# Altium integrated library Transistor.IntLib: 3457 symbols (part 68 of 78)
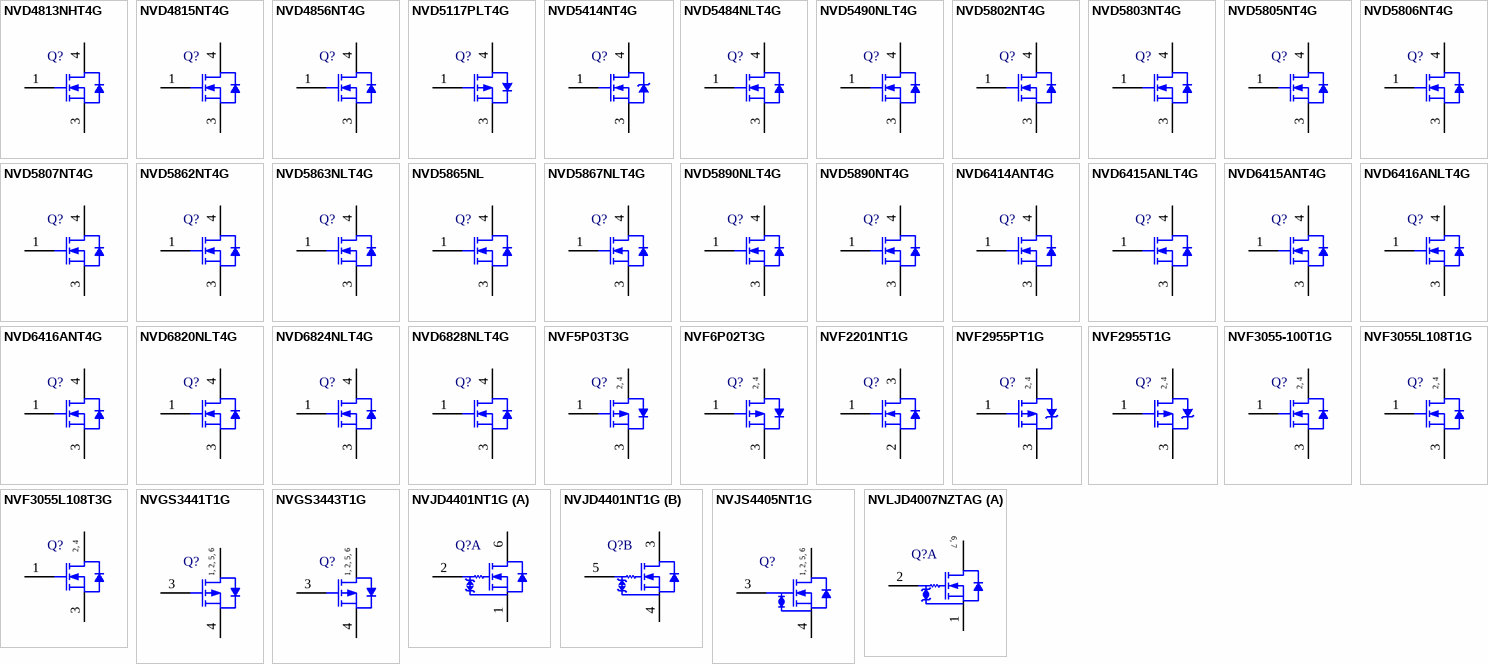
[diagram p161: symbols NVD4813NHT4G to NVLJD4007NZTAG]

## NVF2955PT1G
designator Q?
Power MOSFET, -60 V, -2.6 A, Single P-Channel, 4-Pin SOT-223, Pb-Free, Tape and Reel; Manufacturer: On Semiconductor; PartNumber: NVF2955PT1G; Channel Polarity: P Channel; Ciss Typ (pF): 492; Coss Typ (pF): 165; Crss Typ (pF): 50; ID Max (A): 2.6; Qrr Typ (nC): 0.139; V(BR)DSS Min (V): 60; VGS Max (V): 20; VGS(th) Max (V): 4; DatasheetVersion: Rev. 6; PackageVersion: Rev. N, 08/2009; PackageReference: SOT-223-4-318E-04; PackageDescription: 4-Pin Small Outline Transistor, Body 6.5 x 3.5 mm, Pitch 2.3 mm; Configuration: Single; Package Type: SOT-223-4 / TO-261-4; Packing: Tape and Reel; RoHS: Pb-Free; Mounting Technology: Surface Mount; ComponentLink1Description: Manufacturer URL; ComponentLink1URL: http://www.onsemi.com/; ComponentLink2Description: Datasheet; ComponentLink2URL: http://www.onsemi.com/pub_link/Collateral/NTF2955-D.PDF; ComponentLink3Description: Package Specification; ComponentLink3URL: http://www.onsemi.com/pub_link/Collateral/318E-04.PDF
footprint ONSC-SOT-223-4-318E-04_V (SOT223, 4-Leads, Body 6.5x3.5mm, Pitch 2.3mm)
pins: 1 G, 2 D, 3 S, 4 D
text: 2, 4

## NVF2955T1G
designator Q?
Power MOSFET, -60 V, -2.6 A, Single P-Channel, 4-Pin SOT-223, Pb-Free, Tape and Reel; Manufacturer: On Semiconductor; PartNumber: NVF2955T1G; Channel Polarity: P Channel; Ciss Typ (pF): 492; Coss Typ (pF): 165; Crss Typ (pF): 50; ID Max (A): 2.6; Qrr Typ (nC): 0.139; V(BR)DSS Min (V): 60; VGS Max (V): 20; VGS(th) Max (V): 4; DatasheetVersion: Rev. 6; PackageVersion: Rev. N, 08/2009; PackageReference: SOT-223-4-318E-04; PackageDescription: 4-Pin Small Outline Transistor, Body 6.5 x 3.5 mm, Pitch 2.3 mm; Configuration: Single; Package Type: SOT-223-4 / TO-261-4; Packing: Tape and Reel; RoHS: Pb-Free; Mounting Technology: Surface Mount; ComponentLink1Description: Manufacturer URL; ComponentLink1URL: http://www.onsemi.com/; ComponentLink2Description: Datasheet; ComponentLink2URL: http://www.onsemi.com/pub_link/Collateral/NTF2955-D.PDF; ComponentLink3Description: Package Specification; ComponentLink3URL: http://www.onsemi.com/pub_link/Collateral/318E-04.PDF
footprint ONSC-SOT-223-4-318E-04_V (SOT223, 4-Leads, Body 6.5x3.5mm, Pitch 2.3mm)
pins: 1 G, 2 D, 3 S, 4 D
text: 2, 4

## NVF3055-100T1G
designator Q?
Power MOSFET, 3 A, 60 V, N-Channel, 4-Pin SOT-223, Pb-Free, Tape and Reel; Manufacturer: On Semiconductor; PartNumber: NVF3055-100T1G; Channel Polarity: N Channel; Ciss Typ (pF): 324; Configuration: Single; Coss Typ (pF): 35; Crss Typ (pF): 110; Qrr Typ (nC): 40; V(BR)DSS Min (V): 60; DatasheetVersion: Rev. 4; PackageVersion: Rev. N, 08/2009; PackageReference: SOT-223-4-318E-04; PackageDescription: 4-Pin Small Outline Transistor, Body 6.5 x 3.5 mm, Pitch 2.3 mm; Package Type: SOT-223-4 / TO-261-4; Packing: Tape and Reel; RoHS: Pb-Free; Mounting Technology: Surface Mount; ComponentLink1Description: Manufacturer URL; ComponentLink1URL: http://www.onsemi.com/; ComponentLink2Description: Datasheet; ComponentLink2URL: http://www.onsemi.com/pub_link/Collateral/NTF3055-100-D.PDF; ComponentLink3Description: Package Specification; ComponentLink3URL: http://www.onsemi.com/pub_link/Collateral/318E-04.PDF
footprint ONSC-SOT-223-4-318E-04_V (SOT223, 4-Leads, Body 6.5x3.5mm, Pitch 2.3mm)
pins: 1 G, 2 D, 3 S, 4 D
text: 2, 4

## NVF3055L108T1G
designator Q?
Power MOSFET, 3 A, 60 V, Logic Level, N-Channel, 4-Pin SOT-223, Pb-Free, Tape and Reel; Manufacturer: On Semiconductor; PartNumber: NVF3055L108T1G; Channel Polarity: N Channel; Ciss Typ (pF): 313; Configuration: Single; Coss Typ (pF): 112; Crss Typ (pF): 40; Qrr Typ (nC): 44; V(BR)DSS Min (V): 60; VGS(th) Max (V): 2; DatasheetVersion: Rev. 6; PackageVersion: Rev. N, 08/2009; PackageReference: SOT-223-4-318E-04; PackageDescription: 4-Pin Small Outline Transistor, Body 6.5 x 3.5 mm, Pitch 2.3 mm; Package Type: SOT-223-4 / TO-261-4; Packing: Tape and Reel; RoHS: Pb-Free; Mounting Technology: Surface Mount; ComponentLink1Description: Manufacturer URL; ComponentLink1URL: http://www.onsemi.com/; ComponentLink2Description: Datasheet; ComponentLink2URL: http://www.onsemi.com/pub_link/Collateral/NTF3055L108-D.PDF; ComponentLink3Description: Package Specification; ComponentLink3URL: http://www.onsemi.com/pub_link/Collateral/318E-04.PDF
footprint ONSC-SOT-223-4-318E-04_V (SOT223, 4-Leads, Body 6.5x3.5mm, Pitch 2.3mm)
pins: 1 G, 2 D, 3 S, 4 D
text: 2, 4

## NVF3055L108T3G
designator Q?
Power MOSFET, 3 A, 60 V, Logic Level, N-Channel, 4-Pin SOT-223, Pb-Free, Tape and Reel; Manufacturer: On Semiconductor; PartNumber: NVF3055L108T3G; Channel Polarity: N Channel; Ciss Typ (pF): 313; Configuration: Single; Coss Typ (pF): 112; Crss Typ (pF): 40; Qrr Typ (nC): 44; V(BR)DSS Min (V): 60; VGS(th) Max (V): 2; DatasheetVersion: Rev. 6; PackageVersion: Rev. N, 08/2009; PackageReference: SOT-223-4-318E-04; PackageDescription: 4-Pin Small Outline Transistor, Body 6.5 x 3.5 mm, Pitch 2.3 mm; Package Type: SOT-223-4 / TO-261-4; Packing: Tape and Reel; RoHS: Pb-Free; Mounting Technology: Surface Mount; ComponentLink1Description: Manufacturer URL; ComponentLink1URL: http://www.onsemi.com/; ComponentLink2Description: Datasheet; ComponentLink2URL: http://www.onsemi.com/pub_link/Collateral/NTF3055L108-D.PDF; ComponentLink3Description: Package Specification; ComponentLink3URL: http://www.onsemi.com/pub_link/Collateral/318E-04.PDF
footprint ONSC-SOT-223-4-318E-04_V (SOT223, 4-Leads, Body 6.5x3.5mm, Pitch 2.3mm)
pins: 1 G, 2 D, 3 S, 4 D
text: 2, 4

## NVGS3441T1G
designator Q?
Power MOSFET, 1 A, 20 V, P-Channel, 6-Pin TSOP, Pb-Free, Tape and Reel; Manufacturer: On Semiconductor; PartNumber: NVGS3441T1G; Channel Polarity: P Channel; Ciss Typ (pF): 480; Configuration: Single; Coss Typ (pF): 265; Crss Typ (pF): 100; V(BR)DSS Min (V): 20; VGS Max (V): 8; VGS(th) Max (V): 1.5; DatasheetVersion: Rev. 6; PackageVersion: Rev. V, 06/2012; PackageReference: TSOP-6-318G-02; PackageDescription: 6-Pin Small Outline Package, Body 3 x 1.5 mm, Pitch 0.95 mm; Package Type: TSOP-6; Packing: Tape and Reel; RoHS: Pb-Free; Mounting Technology: Surface Mount; ComponentLink1Description: Manufacturer URL; ComponentLink1URL: http://www.onsemi.com/; ComponentLink2Description: Datasheet; ComponentLink2URL: http://www.onsemi.com/pub_link/Collateral/NTGS3441T1-D.PDF; ComponentLink3Description: Package Specification; ComponentLink3URL: http://www.onsemi.com/pub_link/Collateral/318G-02.PDF
footprint ONSC-TSOP-6-318G-02_V (SOP, 6-Leads, Body 3x1.5mm, Pitch 0.95mm)
pins: 1 D, 2 D, 3 G, 4 S, 5 D, 6 D
text: 1, 2, 5, 6

## NVGS3443T1G
designator Q?
Power MOSFET, 4.4 A, 20 V, P-Channel, 6-Pin TSOP, Pb-Free, Tape and Reel; Manufacturer: On Semiconductor; PartNumber: NVGS3443T1G; Channel Polarity: P Channel; Ciss Typ (pF): 565; Configuration: Single; Coss Typ (pF): 320; Crss Typ (pF): 120; V(BR)DSS Min (V): 20; VGS Max (V): 12; VGS(th) Max (V): 1.5; DatasheetVersion: Rev. 5; PackageVersion: Rev. V, 06/2012; PackageReference: TSOP-6-318G-02; PackageDescription: 6-Pin Small Outline Package, Body 3 x 1.5 mm, Pitch 0.95 mm; Package Type: TSOP-6; Packing: Tape and Reel; RoHS: Pb-Free; Mounting Technology: Surface Mount; ComponentLink1Description: Manufacturer URL; ComponentLink1URL: http://www.onsemi.com/; ComponentLink2Description: Datasheet; ComponentLink2URL: http://www.onsemi.com/pub_link/Collateral/NTGS3443T1-D.PDF; ComponentLink3Description: Package Specification; ComponentLink3URL: http://www.onsemi.com/pub_link/Collateral/318G-02.PDF
footprint ONSC-TSOP-6-318G-02_V (SOP, 6-Leads, Body 3x1.5mm, Pitch 0.95mm)
pins: 1 D, 2 D, 3 G, 4 S, 5 D, 6 D
text: 1, 2, 5, 6

## NVJD4401NT1G
designator Q?
Small Signal MOSFET, 20 V, Dual N-Channel, ESD Protection, 6-Pin SC70, Pb-Free, Tape and Reel; Manufacturer: On Semiconductor; PartNumber: NVJD4401NT1G; Channel Polarity: N Channel; Ciss Typ (pF): 33; Coss Typ (pF): 13; Crss Typ (pF): 2.8; ID Max (A): 0.63; V(BR)DSS Min (V): 20; VGS Max (V): 12; VGS(th) Max (V): 1.5; DatasheetVersion: Rev. 6; PackageVersion: Rev. W; PackageReference: SC70-6-419B-02_W; PackageDescription: 6-Pin Small Outline Transistor, Body 2 x 1.25 mm, Pitch 0.65 mm; Configuration: Dual; Package Type: SC-88-6 / SC-70-6 / SOT-363-6; Packing: Tape and Reel; RoHS: Pb-Free; Mounting Technology: Surface Mount; ComponentLink1Description: Manufacturer URL; ComponentLink1URL: http://www.onsemi.com/; ComponentLink2Description: Datasheet; ComponentLink2URL: http://www.onsemi.com/pub_link/Collateral/NTJD4401N-D.PDF; ComponentLink3Description: Package Specification; ComponentLink3URL: http://www.onsemi.com/pub_link/Collateral/SMF05C-D.PDF
footprint ONSC-SC70-6-419B-02_W_V (SOT23, 6-Leads, Body 2x1.25mm, Pitch 0.65mm)
part A pins: 1 S1, 2 G1, 6 D1
part B pins: 3 D2, 4 S2, 5 G2

## NVJS4405NT1G
designator Q?
Small Signal MOSFET, 25 V, 1.2 A, Single, N-Channel, 6-Pin SC70, Pb-Free, Tape and Reel; Manufacturer: On Semiconductor; PartNumber: NVJS4405NT1G; Channel Polarity: N Channel; Ciss Typ (pF): 49; Coss Typ (pF): 22.4; Crss Typ (pF): 8; ID Max (A): 1.2; V(BR)DSS Min (V): 25; VGS(th) Max (V): 1.5; DatasheetVersion: Rev. 6; PackageVersion: Rev. W; PackageReference: SC70-6-419B-02_W; PackageDescription: 6-Pin Small Outline Transistor, Body 2 x 1.25 mm, Pitch 0.65 mm; Configuration: Single; Package Type: SC-88-6 / SC-70-6 / SOT-363-6; Packing: Tape and Reel; RoHS: Pb-Free; VGS Max (V): 8; Mounting Technology: Surface Mount; ComponentLink1Description: Manufacturer URL; ComponentLink1URL: http://www.onsemi.com/; ComponentLink2Description: Datasheet; ComponentLink2URL: http://www.onsemi.com/pub_link/Collateral/NTJS4405N-D.PDF; ComponentLink3Description: Package Specification; ComponentLink3URL: http://www.onsemi.com/pub_link/Collateral/SMF05C-D.PDF
footprint ONSC-SC70-6-419B-02_W_V (SOT23, 6-Leads, Body 2x1.25mm, Pitch 0.65mm)
pins: 1 D, 2 D, 3 G, 4 S, 5 D, 6 D
text: 1, 2, 5, 6

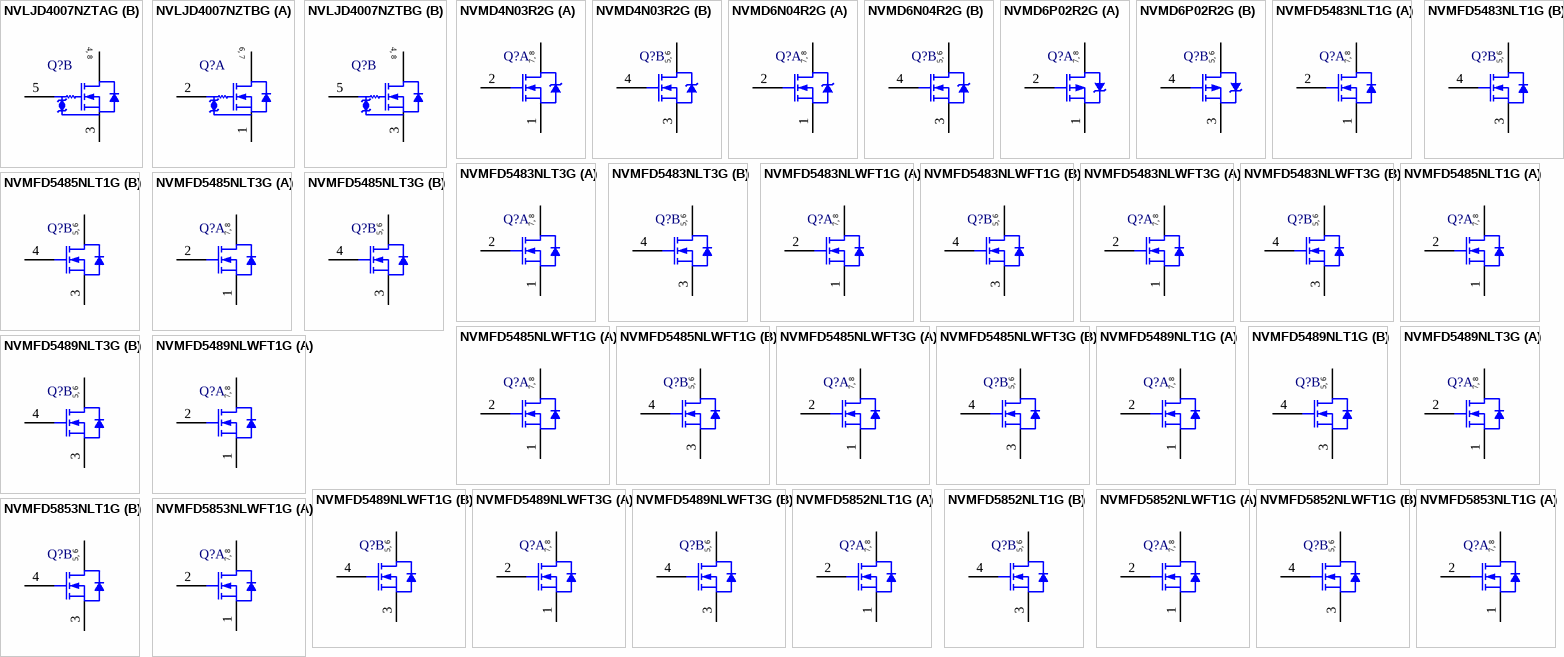
[diagram p82: symbols NVLJD4007NZTAG to NVMFD5853NLWFT1G]

## NVLJD4007NZTAG
designator Q?
Small Signal MOSFET, 30 V, 245 mA, Dual, N-Channel, Gate ESD Protection, 6-Pin WDFN, Pb-Free, Tape and Reel; Manufacturer: On Semiconductor; PartNumber: NVLJD4007NZTAG; Channel Polarity: N Channel; Ciss Typ (pF): 12.2; Coss Typ (pF): 10; Crss Typ (pF): 3.3; ID Max (A): 0.245; PD Max (W): 0.755; V(BR)DSS Min (V): 30; VGS(th) Max (V): 1.5; DatasheetVersion: Rev. F; PackageVersion: Rev. F, 09/2012; PackageReference: WDFN-6-506AN_F; PackageDescription: 6-Pin Small Outline No-Lead, Body 2 x 2 mm, Pitch 0.65 mm; Supplier 1: Newark; Supplier Part Number 1: 97W6401; Supplier 2: Mouser; Supplier Part Number 2: 863-NVLJD4007NZTAG; Configuration: Dual; Package Type: WDFN-6; Packing: Tape and Reel; RoHS: Pb-Free; VGS Max (V): 10; Mounting Technology: Surface Mount; ComponentLink1Description: Manufacturer URL; ComponentLink1URL: http://www.onsemi.com/; ComponentLink2Description: Datasheet; ComponentLink2URL: http://www.onsemi.com/pub_link/Collateral/NVLJD4007NZ-D.PDF; ComponentLink3Description: Package Specification; ComponentLink3URL: http://www.onsemi.com/pub_link/Collateral/NVLJD4007NZ-D.PDF
footprint ONSC-WDFN-6-506AN_F_V (WDFN, 6-Leads, Body 2x2mm, Pitch 0.65mm)
part A pins: 1 S1, 2 G1, 6 D1, 7 D1
part B pins: 3 S2, 4 D2, 5 G2, 8 D2
part A text: 6, 7
part B text: 4, 8

## NVLJD4007NZTBG
designator Q?
Small Signal MOSFET, 30 V, 245 mA, Dual, N-Channel, Gate ESD Protection, 6-Pin WDFN, Pb-Free, Tape and Reel; Manufacturer: On Semiconductor; PartNumber: NVLJD4007NZTBG; Channel Polarity: N Channel; Ciss Typ (pF): 12.2; Coss Typ (pF): 10; Crss Typ (pF): 3.3; ID Max (A): 0.245; PD Max (W): 0.755; V(BR)DSS Min (V): 30; VGS(th) Max (V): 1.5; DatasheetVersion: Rev. F; PackageVersion: Rev. F, 09/2012; PackageReference: WDFN-6-506AN_F; PackageDescription: 6-Pin Small Outline No-Lead, Body 2 x 2 mm, Pitch 0.65 mm; Supplier 1: Newark; Supplier Part Number 1: 97W6402; Supplier 2: Mouser; Supplier Part Number 2: 863-NVLJD4007NZTBG; Configuration: Dual; Package Type: WDFN-6; Packing: Tape and Reel; RoHS: Pb-Free; VGS Max (V): 10; Mounting Technology: Surface Mount; ComponentLink1Description: Manufacturer URL; ComponentLink1URL: http://www.onsemi.com/; ComponentLink2Description: Datasheet; ComponentLink2URL: http://www.onsemi.com/pub_link/Collateral/NVLJD4007NZ-D.PDF; ComponentLink3Description: Package Specification; ComponentLink3URL: http://www.onsemi.com/pub_link/Collateral/NVLJD4007NZ-D.PDF
footprint ONSC-WDFN-6-506AN_F_V (WDFN, 6-Leads, Body 2x2mm, Pitch 0.65mm)
part A pins: 1 S1, 2 G1, 6 D1, 7 D1
part B pins: 3 S2, 4 D2, 5 G2, 8 D2
part A text: 6, 7
part B text: 4, 8

## NVMD4N03R2G
designator Q?
Power MOSFET, 4 A, 30 V, N-Channel, 8-Pin SOIC, Pb-Free, Tape and Reel; Manufacturer: On Semiconductor; PartNumber: NVMD4N03R2G; Channel Polarity: N Channel; Ciss Typ (pF): 285; Configuration: Dual; Coss Typ (pF): 95; Crss Typ (pF): 35; ID Max (A): 4; PD Max (W): 2; Qrr Typ (nC): 8; V(BR)DSS Min (V): 30; VGS Max (V): 20; VGS(th) Max (V): 3; DatasheetVersion: Rev. 4; PackageVersion: Rev. AK, 02/2011; PackageReference: SOIC-8-751-07; PackageDescription: 8-Pin Small Outline Integrated Circuit, Body 4.9 x 3.9 mm, Pitch 1.27 mm; Package Type: SOIC-8; Packing: Tape and Reel; RoHS: Pb-Free; Mounting Technology: Surface Mount; ComponentLink1Description: Manufacturer URL; ComponentLink1URL: http://www.onsemi.com/; ComponentLink2Description: Datasheet; ComponentLink2URL: http://www.onsemi.com/pub_link/Collateral/NTMD4N03R2-D.PDF; ComponentLink3Description: Package Specification; ComponentLink3URL: http://www.onsemi.com/pub_link/Collateral/751-07.PDF
footprint ONSC-SOIC-8-751-07_V (SOIC, 8-Leads, Body 4.9x3.9mm, Pitch 1.27mm)
part A pins: 1 S1, 2 G1, 7 D1, 8 D1
part B pins: 3 S2, 4 G2, 5 D2, 6 D2
part A text: 7, 8
part B text: 5, 6

## NVMD6N04R2G
designator Q?
Power MOSFET, 40 V, 5.8 A, Dual N-Channel, 8-Pin SOIC, Pb-Free, Tape and Reel; Manufacturer: On Semiconductor; PartNumber: NVMD6N04R2G; Channel Polarity: N Channel; Ciss Typ (pF): 723; Coss Typ (pF): 156; Crss Typ (pF): 53; ID Max (A): 5.8; Qrr Typ (nC): 20; V(BR)DSS Min (V): 40; VGS(th) Max (V): 3; DatasheetVersion: Rev. 2; PackageVersion: Rev. AK, 02/2011; PackageReference: SOIC-8-751-07; PackageDescription: 8-Pin Small Outline Integrated Circuit, Body 4.9 x 3.9 mm, Pitch 1.27 mm; Configuration: Dual; Package Type: SOIC-8; Packing: Tape and Reel; RoHS: Pb-Free; VGS Max (V): 20; Mounting Technology: Surface Mount; ComponentLink1Description: Manufacturer URL; ComponentLink1URL: http://www.onsemi.com/; ComponentLink2Description: Datasheet; ComponentLink2URL: http://www.onsemi.com/pub_link/Collateral/NTMD6N04R2-D.PDF; ComponentLink3Description: Package Specification; ComponentLink3URL: http://www.onsemi.com/pub_link/Collateral/751-07.PDF
footprint ONSC-SOIC-8-751-07_V (SOIC, 8-Leads, Body 4.9x3.9mm, Pitch 1.27mm)
part A pins: 1 S1, 2 G1, 7 D1, 8 D1
part B pins: 3 S2, 4 G2, 5 D2, 6 D2
part A text: 7, 8
part B text: 5, 6

## NVMD6P02R2G
designator Q?
Power MOSFET, 6 A, 20 V, P-Channel, 8-Pin SOIC, Pb-Free, Tape and Reel; Manufacturer: On Semiconductor; PartNumber: NVMD6P02R2G; Channel Polarity: P Channel; Ciss Typ (pF): 1380; Configuration: Dual; Coss Typ (pF): 515; Crss Typ (pF): 250; Qrr Typ (nC): 40; V(BR)DSS Min (V): 20; VGS Max (V): 12; VGS(th) Max (V): 1.2; DatasheetVersion: Rev. 4; PackageVersion: Rev. AK, 02/2011; PackageReference: SOIC-8-751-07; PackageDescription: 8-Pin Small Outline Integrated Circuit, Body 4.9 x 3.9 mm, Pitch 1.27 mm; Package Type: SOIC-8; Packing: Tape and Reel; RoHS: Pb-Free; Mounting Technology: Surface Mount; ComponentLink1Description: Manufacturer URL; ComponentLink1URL: http://www.onsemi.com/; ComponentLink2Description: Datasheet; ComponentLink2URL: http://www.onsemi.com/pub_link/Collateral/NTMD6P02R2-D.PDF; ComponentLink3Description: Package Specification; ComponentLink3URL: http://www.onsemi.com/pub_link/Collateral/751-07.PDF
footprint ONSC-SOIC-8-751-07_V (SOIC, 8-Leads, Body 4.9x3.9mm, Pitch 1.27mm)
part A pins: 1 S1, 2 G1, 7 D1, 8 D1
part B pins: 3 S2, 4 G2, 5 D2, 6 D2
part A text: 7, 8
part B text: 5, 6

## NVMFD5483NLT1G
designator Q?
Power MOSFET, 60 V, 36 mOhm , 24 A, Dual N-Channel, 8-Pin DFN, Pb-Free, Tape and Reel; Manufacturer: On Semiconductor; PartNumber: NVMFD5483NLT1G; Channel Polarity: N Channel; Ciss Typ (pF): 668; Coss Typ (pF): 152; Crss Typ (pF): 67; ID Max (A): 24; Qrr Typ (nC): 35; V(BR)DSS Min (V): 60; VGS Max (V): 20; VGS(th) Max (V): 2.5; DatasheetVersion: Rev. 1; PackageVersion: Rev. E, 02/2013; PackageReference: DFN-8-506BT; PackageDescription: 8-Pin Small Outline No-Lead, Body 4.9 x 5.9 mm, Pitch 1.27 mm; Supplier 1: Newark; Supplier Part Number 1: 11X3703; Supplier 2: Mouser; Supplier Part Number 2: 863-NVMFD5483NLT1G; Configuration: Dual; Package Type: DFN-8; Packing: Tape and Reel; RoHS: Pb-Free; Mounting Technology: Surface Mount; ComponentLink1Description: Manufacturer URL; ComponentLink1URL: http://www.onsemi.com/; ComponentLink2Description: Datasheet; ComponentLink2URL: http://www.onsemi.com/pub_link/Collateral/NVMFD5483NL-D.PDF; ComponentLink3Description: Package Specification; ComponentLink3URL: http://www.onsemi.com/pub_link/Collateral/506BT.PDF
footprint ONSC-DFN-8-506BT_V (DFN, 8-Leads, Body 5.9x4.9mm, Pitch 1.27mm)
part A pins: 1 S1, 2 G1, 7 D1, 8 D1
part B pins: 3 S2, 4 G2, 5 D2, 6 D2
part A text: 7, 8
part B text: 5, 6

## NVMFD5483NLT3G
designator Q?
Power MOSFET, 60 V, 24 A, 36 mOhm, Dual N-Channel, 8-Pin DFN, Pb-Free, Tape and Reel; Manufacturer: On Semiconductor; PartNumber: NVMFD5483NLT3G; Channel Polarity: N Channel; Ciss Typ (pF): 668; Coss Typ (pF): 152; Crss Typ (pF): 67; ID Max (A): 24; Qrr Typ (nC): 35; V(BR)DSS Min (V): 60; VGS Max (V): 20; VGS(th) Max (V): 2.5; DatasheetVersion: Rev. 1; PackageVersion: Rev. E, 02/2013; PackageReference: DFN-8-506BT; PackageDescription: 8-Pin Small Outline No-Lead, Body 4.9 x 5.9 mm, Pitch 1.27 mm; Supplier 1: Newark; Supplier Part Number 1: 11X3704; Supplier 2: Mouser; Supplier Part Number 2: 863-NVMFD5483NLT3G; Configuration: Dual; Package Type: DFN-8; Packing: Tape and Reel; RoHS: Pb-Free; Mounting Technology: Surface Mount; ComponentLink1Description: Manufacturer URL; ComponentLink1URL: http://www.onsemi.com/; ComponentLink2Description: Datasheet; ComponentLink2URL: http://www.onsemi.com/pub_link/Collateral/NVMFD5483NL-D.PDF; ComponentLink3Description: Package Specification; ComponentLink3URL: http://www.onsemi.com/pub_link/Collateral/506BT.PDF
footprint ONSC-DFN-8-506BT_V (DFN, 8-Leads, Body 5.9x4.9mm, Pitch 1.27mm)
part A pins: 1 S1, 2 G1, 7 D1, 8 D1
part B pins: 3 S2, 4 G2, 5 D2, 6 D2
part A text: 7, 8
part B text: 5, 6

## NVMFD5483NLWFT1G
designator Q?
Power MOSFET, 60 V, 36 mOhm , 24 A, Dual N-Channel, 8-Pin DFN, Pb-Free, Tape and Reel; Manufacturer: On Semiconductor; PartNumber: NVMFD5483NLWFT1G; Channel Polarity: N Channel; Ciss Typ (pF): 668; Coss Typ (pF): 152; Crss Typ (pF): 67; ID Max (A): 24; Qrr Typ (nC): 35; V(BR)DSS Min (V): 60; VGS Max (V): 20; VGS(th) Max (V): 2.5; DatasheetVersion: Rev. 1; PackageVersion: Rev. E, 02/2013; PackageReference: DFN-8-506BT; PackageDescription: 8-Pin Small Outline No-Lead, Body 4.9 x 5.9 mm, Pitch 1.27 mm; Supplier 1: Newark; Supplier Part Number 1: 11X3705; Supplier 2: Mouser; Supplier Part Number 2: 863-NVMFD5483NLWFT1G; Configuration: Dual; Package Type: DFN-8; Packing: Tape and Reel; RoHS: Pb-Free; Mounting Technology: Surface Mount; ComponentLink1Description: Manufacturer URL; ComponentLink1URL: http://www.onsemi.com/; ComponentLink2Description: Datasheet; ComponentLink2URL: http://www.onsemi.com/pub_link/Collateral/NVMFD5483NL-D.PDF; ComponentLink3Description: Package Specification; ComponentLink3URL: http://www.onsemi.com/pub_link/Collateral/506BT.PDF
footprint ONSC-DFN-8-506BT_V (DFN, 8-Leads, Body 5.9x4.9mm, Pitch 1.27mm)
part A pins: 1 S1, 2 G1, 7 D1, 8 D1
part B pins: 3 S2, 4 G2, 5 D2, 6 D2
part A text: 7, 8
part B text: 5, 6

## NVMFD5483NLWFT3G
designator Q?
Power MOSFET, 60 V, 24 A, 36 mOhm, Dual N-Channel, 8-Pin DFN, Pb-Free, Tape and Reel; Manufacturer: On Semiconductor; PartNumber: NVMFD5483NLWFT3G; Channel Polarity: N Channel; Ciss Typ (pF): 668; Coss Typ (pF): 152; Crss Typ (pF): 67; ID Max (A): 24; Qrr Typ (nC): 35; V(BR)DSS Min (V): 60; VGS Max (V): 20; VGS(th) Max (V): 2.5; DatasheetVersion: Rev. 1; PackageVersion: Rev. E, 02/2013; PackageReference: DFN-8-506BT; PackageDescription: 8-Pin Small Outline No-Lead, Body 4.9 x 5.9 mm, Pitch 1.27 mm; Supplier 1: Newark; Supplier Part Number 1: 11X3706; Supplier 2: Mouser; Supplier Part Number 2: 863-NVMFD5483NLWFT3G; Configuration: Dual; Package Type: DFN-8; Packing: Tape and Reel; RoHS: Pb-Free; Mounting Technology: Surface Mount; ComponentLink1Description: Manufacturer URL; ComponentLink1URL: http://www.onsemi.com/; ComponentLink2Description: Datasheet; ComponentLink2URL: http://www.onsemi.com/pub_link/Collateral/NVMFD5483NL-D.PDF; ComponentLink3Description: Package Specification; ComponentLink3URL: http://www.onsemi.com/pub_link/Collateral/506BT.PDF
footprint ONSC-DFN-8-506BT_V (DFN, 8-Leads, Body 5.9x4.9mm, Pitch 1.27mm)
part A pins: 1 S1, 2 G1, 7 D1, 8 D1
part B pins: 3 S2, 4 G2, 5 D2, 6 D2
part A text: 7, 8
part B text: 5, 6

## NVMFD5485NLT1G
designator Q?
Power MOSFET, 60 V, 20 A, 44 mOhm, Dual N-Channel, 8-Pin DFN, Pb-Free, Tape and Reel; Manufacturer: On Semiconductor; PartNumber: NVMFD5485NLT1G; Channel Polarity: N Channel; Ciss Typ (pF): 560; Coss Typ (pF): 126; Crss Typ (pF): 58; ID Max (A): 20; Qrr Typ (nC): 35.5; V(BR)DSS Min (V): 60; VGS(th) Max (V): 2.5; DatasheetVersion: Rev. 1; PackageVersion: Rev. E, 02/2013; PackageReference: DFN-8-506BT; PackageDescription: 8-Pin Small Outline No-Lead, Body 4.9 x 5.9 mm, Pitch 1.27 mm; Supplier 1: Newark; Supplier Part Number 1: 11X3707; Supplier 2: Mouser; Supplier Part Number 2: 863-NVMFD5485NLT1G; Configuration: Dual; Package Type: DFN-8; Packing: Tape and Reel; RoHS: Pb-Free; VGS Max (V): 20; Mounting Technology: Surface Mount; ComponentLink1Description: Manufacturer URL; ComponentLink1URL: http://www.onsemi.com/; ComponentLink2Description: Datasheet; ComponentLink2URL: http://www.onsemi.com/pub_link/Collateral/NVMFD5485NL-D.PDF; ComponentLink3Description: Package Specification; ComponentLink3URL: http://www.onsemi.com/pub_link/Collateral/506BT.PDF
footprint ONSC-DFN-8-506BT_V (DFN, 8-Leads, Body 5.9x4.9mm, Pitch 1.27mm)
part A pins: 1 S1, 2 G1, 7 D1, 8 D1
part B pins: 3 S2, 4 G2, 5 D2, 6 D2
part A text: 7, 8
part B text: 5, 6

## NVMFD5485NLT3G
designator Q?
Power MOSFET, 60 V, 20 A, 44 mOhm, Dual N-Channel, 8-Pin DFN, Pb-Free, Tape and Reel; Manufacturer: On Semiconductor; PartNumber: NVMFD5485NLT3G; Channel Polarity: N Channel; Ciss Typ (pF): 560; Coss Typ (pF): 126; Crss Typ (pF): 58; ID Max (A): 20; Qrr Typ (nC): 35.5; V(BR)DSS Min (V): 60; VGS(th) Max (V): 2.5; DatasheetVersion: Rev. 1; PackageVersion: Rev. E, 02/2013; PackageReference: DFN-8-506BT; PackageDescription: 8-Pin Small Outline No-Lead, Body 4.9 x 5.9 mm, Pitch 1.27 mm; Supplier 1: Newark; Supplier Part Number 1: 11X3708; Supplier 2: Mouser; Supplier Part Number 2: 863-NVMFD5485NLT3G; Configuration: Dual; Package Type: DFN-8; Packing: Tape and Reel; RoHS: Pb-Free; VGS Max (V): 20; Mounting Technology: Surface Mount; ComponentLink1Description: Manufacturer URL; ComponentLink1URL: http://www.onsemi.com/; ComponentLink2Description: Datasheet; ComponentLink2URL: http://www.onsemi.com/pub_link/Collateral/NVMFD5485NL-D.PDF; ComponentLink3Description: Package Specification; ComponentLink3URL: http://www.onsemi.com/pub_link/Collateral/506BT.PDF
footprint ONSC-DFN-8-506BT_V (DFN, 8-Leads, Body 5.9x4.9mm, Pitch 1.27mm)
part A pins: 1 S1, 2 G1, 7 D1, 8 D1
part B pins: 3 S2, 4 G2, 5 D2, 6 D2
part A text: 7, 8
part B text: 5, 6

## NVMFD5485NLWFT1G
designator Q?
Power MOSFET, 60 V, 20 A, 44 mOhm, Dual N-Channel, 8-Pin DFN, Pb-Free, Tape and Reel; Manufacturer: On Semiconductor; PartNumber: NVMFD5485NLWFT1G; Channel Polarity: N Channel; Ciss Typ (pF): 560; Coss Typ (pF): 126; Crss Typ (pF): 58; ID Max (A): 20; Qrr Typ (nC): 35.5; V(BR)DSS Min (V): 60; VGS(th) Max (V): 2.5; DatasheetVersion: Rev. 1; PackageVersion: Rev. E, 02/2013; PackageReference: DFN-8-506BT; PackageDescription: 8-Pin Small Outline No-Lead, Body 4.9 x 5.9 mm, Pitch 1.27 mm; Supplier 1: Newark; Supplier Part Number 1: 11X3709; Supplier 2: Mouser; Supplier Part Number 2: 863-NVMFD5485NLWFT1G; Configuration: Dual; Package Type: DFN-8; Packing: Tape and Reel; RoHS: Pb-Free; VGS Max (V): 20; Mounting Technology: Surface Mount; ComponentLink1Description: Manufacturer URL; ComponentLink1URL: http://www.onsemi.com/; ComponentLink2Description: Datasheet; ComponentLink2URL: http://www.onsemi.com/pub_link/Collateral/NVMFD5485NL-D.PDF; ComponentLink3Description: Package Specification; ComponentLink3URL: http://www.onsemi.com/pub_link/Collateral/506BT.PDF
footprint ONSC-DFN-8-506BT_V (DFN, 8-Leads, Body 5.9x4.9mm, Pitch 1.27mm)
part A pins: 1 S1, 2 G1, 7 D1, 8 D1
part B pins: 3 S2, 4 G2, 5 D2, 6 D2
part A text: 7, 8
part B text: 5, 6

## NVMFD5485NLWFT3G
designator Q?
Power MOSFET, 60 V, 20 A, 44 mOhm, Dual N-Channel, 8-Pin DFN, Pb-Free, Tape and Reel; Manufacturer: On Semiconductor; PartNumber: NVMFD5485NLWFT3G; Channel Polarity: N Channel; Ciss Typ (pF): 560; Coss Typ (pF): 126; Crss Typ (pF): 58; ID Max (A): 20; Qrr Typ (nC): 35.5; V(BR)DSS Min (V): 60; VGS(th) Max (V): 2.5; DatasheetVersion: Rev. 1; PackageVersion: Rev. E, 02/2013; PackageReference: DFN-8-506BT; PackageDescription: 8-Pin Small Outline No-Lead, Body 4.9 x 5.9 mm, Pitch 1.27 mm; Supplier 1: Newark; Supplier Part Number 1: 11X3710; Supplier 2: Mouser; Supplier Part Number 2: 863-NVMFD5485NLWFT3G; Configuration: Dual; Package Type: DFN-8; Packing: Tape and Reel; RoHS: Pb-Free; VGS Max (V): 20; Mounting Technology: Surface Mount; ComponentLink1Description: Manufacturer URL; ComponentLink1URL: http://www.onsemi.com/; ComponentLink2Description: Datasheet; ComponentLink2URL: http://www.onsemi.com/pub_link/Collateral/NVMFD5485NL-D.PDF; ComponentLink3Description: Package Specification; ComponentLink3URL: http://www.onsemi.com/pub_link/Collateral/506BT.PDF
footprint ONSC-DFN-8-506BT_V (DFN, 8-Leads, Body 5.9x4.9mm, Pitch 1.27mm)
part A pins: 1 S1, 2 G1, 7 D1, 8 D1
part B pins: 3 S2, 4 G2, 5 D2, 6 D2
part A text: 7, 8
part B text: 5, 6

## NVMFD5489NLT1G
designator Q?
Power MOSFET, 60 V, 12 A, 65 mOhm, Dual N-Channel Logic Level, 8-Pin DFN, Pb-Free, Tape and Reel; Manufacturer: On Semiconductor; PartNumber: NVMFD5489NLT1G; Channel Polarity: N Channel; Ciss Typ (pF): 330; Coss Typ (pF): 80; Crss Typ (pF): 39; ID Max (A): 12; Qrr Typ (nC): 26.5; V(BR)DSS Min (V): 60; VGS Max (V): 20; VGS(th) Max (V): 2.5; DatasheetVersion: Rev. 1; PackageVersion: Rev. E, 02/2013; PackageReference: DFN-8-506BT; PackageDescription: 8-Pin Small Outline No-Lead, Body 4.9 x 5.9 mm, Pitch 1.27 mm; Supplier 1: Newark; Supplier Part Number 1: 11X3711; Supplier 2: Mouser; Supplier Part Number 2: 863-NVMFD5489NLT1G; Configuration: Dual; Package Type: DFN-8; Packing: Tape and Reel; RoHS: Pb-Free; Mounting Technology: Surface Mount; ComponentLink1Description: Manufacturer URL; ComponentLink1URL: http://www.onsemi.com/; ComponentLink2Description: Datasheet; ComponentLink2URL: http://www.onsemi.com/pub_link/Collateral/NVMFD5489NL-D.PDF; ComponentLink3Description: Package Specification; ComponentLink3URL: http://www.onsemi.com/pub_link/Collateral/506BT.PDF
footprint ONSC-DFN-8-506BT_V (DFN, 8-Leads, Body 5.9x4.9mm, Pitch 1.27mm)
part A pins: 1 S1, 2 G1, 7 D1, 8 D1
part B pins: 3 S2, 4 G2, 5 D2, 6 D2
part A text: 7, 8
part B text: 5, 6

## NVMFD5489NLT3G
designator Q?
Power MOSFET, 60 V, 12 A, 65 mOhm, Dual N-Channel Logic Level, 8-Pin DFN, Pb-Free, Tape and Reel; Manufacturer: On Semiconductor; PartNumber: NVMFD5489NLT3G; Channel Polarity: N Channel; Ciss Typ (pF): 330; Coss Typ (pF): 80; Crss Typ (pF): 39; ID Max (A): 12; Qrr Typ (nC): 26.5; V(BR)DSS Min (V): 60; VGS Max (V): 20; VGS(th) Max (V): 2.5; DatasheetVersion: Rev. 1; PackageVersion: Rev. E, 02/2013; PackageReference: DFN-8-506BT; PackageDescription: 8-Pin Small Outline No-Lead, Body 4.9 x 5.9 mm, Pitch 1.27 mm; Supplier 1: Newark; Supplier Part Number 1: 11X3712; Supplier 2: Mouser; Supplier Part Number 2: 863-NVMFD5489NLT3G; Configuration: Dual; Package Type: DFN-8; Packing: Tape and Reel; RoHS: Pb-Free; Mounting Technology: Surface Mount; ComponentLink1Description: Manufacturer URL; ComponentLink1URL: http://www.onsemi.com/; ComponentLink2Description: Datasheet; ComponentLink2URL: http://www.onsemi.com/pub_link/Collateral/NVMFD5489NL-D.PDF; ComponentLink3Description: Package Specification; ComponentLink3URL: http://www.onsemi.com/pub_link/Collateral/506BT.PDF
footprint ONSC-DFN-8-506BT_V (DFN, 8-Leads, Body 5.9x4.9mm, Pitch 1.27mm)
part A pins: 1 S1, 2 G1, 7 D1, 8 D1
part B pins: 3 S2, 4 G2, 5 D2, 6 D2
part A text: 7, 8
part B text: 5, 6

## NVMFD5489NLWFT1G
designator Q?
Power MOSFET, 60 V, 12 A, 65 mOhm, Dual N-Channel Logic Level, 8-Pin DFN, Pb-Free, Tape and Reel; Manufacturer: On Semiconductor; PartNumber: NVMFD5489NLWFT1G; Channel Polarity: N Channel; Ciss Typ (pF): 330; Coss Typ (pF): 80; Crss Typ (pF): 39; ID Max (A): 12; Qrr Typ (nC): 26.5; V(BR)DSS Min (V): 60; VGS Max (V): 20; VGS(th) Max (V): 2.5; DatasheetVersion: Rev. 1; PackageVersion: Rev. E, 02/2013; PackageReference: DFN-8-506BT; PackageDescription: 8-Pin Small Outline No-Lead, Body 4.9 x 5.9 mm, Pitch 1.27 mm; Supplier 1: Newark; Supplier Part Number 1: 11X3713; Supplier 2: Mouser; Supplier Part Number 2: 863-NVMFD5489NLWFT1G; Configuration: Dual; Package Type: DFN-8; Packing: Tape and Reel; RoHS: Pb-Free; Mounting Technology: Surface Mount; ComponentLink1Description: Manufacturer URL; ComponentLink1URL: http://www.onsemi.com/; ComponentLink2Description: Datasheet; ComponentLink2URL: http://www.onsemi.com/pub_link/Collateral/NVMFD5489NL-D.PDF; ComponentLink3Description: Package Specification; ComponentLink3URL: http://www.onsemi.com/pub_link/Collateral/506BT.PDF
footprint ONSC-DFN-8-506BT_V (DFN, 8-Leads, Body 5.9x4.9mm, Pitch 1.27mm)
part A pins: 1 S1, 2 G1, 7 D1, 8 D1
part B pins: 3 S2, 4 G2, 5 D2, 6 D2
part A text: 7, 8
part B text: 5, 6

## NVMFD5489NLWFT3G
designator Q?
Power MOSFET, 60 V, 12 A, 65 mOhm, Dual N-Channel Logic Level, 8-Pin DFN, Pb-Free, Tape and Reel; Manufacturer: On Semiconductor; PartNumber: NVMFD5489NLWFT3G; Channel Polarity: N Channel; Ciss Typ (pF): 330; Coss Typ (pF): 80; Crss Typ (pF): 39; ID Max (A): 12; Qrr Typ (nC): 26.5; V(BR)DSS Min (V): 60; VGS Max (V): 20; VGS(th) Max (V): 2.5; DatasheetVersion: Rev. 1; PackageVersion: Rev. E, 02/2013; PackageReference: DFN-8-506BT; PackageDescription: 8-Pin Small Outline No-Lead, Body 4.9 x 5.9 mm, Pitch 1.27 mm; Supplier 1: Newark; Supplier Part Number 1: 11X3714; Supplier 2: Mouser; Supplier Part Number 2: 863-NVMFD5489NLWFT3G; Configuration: Dual; Package Type: DFN-8; Packing: Tape and Reel; RoHS: Pb-Free; Mounting Technology: Surface Mount; ComponentLink1Description: Manufacturer URL; ComponentLink1URL: http://www.onsemi.com/; ComponentLink2Description: Datasheet; ComponentLink2URL: http://www.onsemi.com/pub_link/Collateral/NVMFD5489NL-D.PDF; ComponentLink3Description: Package Specification; ComponentLink3URL: http://www.onsemi.com/pub_link/Collateral/506BT.PDF
footprint ONSC-DFN-8-506BT_V (DFN, 8-Leads, Body 5.9x4.9mm, Pitch 1.27mm)
part A pins: 1 S1, 2 G1, 7 D1, 8 D1
part B pins: 3 S2, 4 G2, 5 D2, 6 D2
part A text: 7, 8
part B text: 5, 6

## NVMFD5852NLT1G
designator Q?
Power MOSFET, 40 V, 44 A, 6.9 mOhm, Dual N-Channel Logic Level, 8-Pin DFN, Pb-Free, Tape and Reel; Manufacturer: On Semiconductor; PartNumber: NVMFD5852NLT1G; Channel Polarity: N Channel; Ciss Typ (pF): 1800; Coss Typ (pF): 240; Crss Typ (pF): 180; ID Max (A): 44; Qrr Typ (nC): 15.2; V(BR)DSS Min (V): 40; VGS Max (V): 20; VGS(th) Max (V): 2.4; DatasheetVersion: Rev. 5; PackageVersion: Rev. E, 02/2013; PackageReference: DFN-8-506BT; PackageDescription: 8-Pin Small Outline No-Lead, Body 4.9 x 5.9 mm, Pitch 1.27 mm; Supplier 1: Newark; Supplier Part Number 1: 60W1850; Supplier 2: Mouser; Supplier Part Number 2: 863-NVMFD5852NLT1G; Configuration: Dual; Package Type: DFN-8; Packing: Tape and Reel; RoHS: Pb-Free; Mounting Technology: Surface Mount; ComponentLink1Description: Manufacturer URL; ComponentLink1URL: http://www.onsemi.com/; ComponentLink2Description: Datasheet; ComponentLink2URL: http://www.onsemi.com/pub_link/Collateral/NVMFD5852NL-D.PDF; ComponentLink3Description: Package Specification; ComponentLink3URL: http://www.onsemi.com/pub_link/Collateral/506BT.PDF
footprint ONSC-DFN-8-506BT_V (DFN, 8-Leads, Body 5.9x4.9mm, Pitch 1.27mm)
part A pins: 1 S1, 2 G1, 7 D1, 8 D1
part B pins: 3 S2, 4 G2, 5 D2, 6 D2
part A text: 7, 8
part B text: 5, 6

## NVMFD5852NLWFT1G
designator Q?
Power MOSFET, 40 V, 44 A, 6.9 mOhm, Dual N-Channel Logic Level, 8-Pin DFN, Pb-Free, Tape and Reel; Manufacturer: On Semiconductor; PartNumber: NVMFD5852NLWFT1G; Channel Polarity: N Channel; Ciss Typ (pF): 1800; Coss Typ (pF): 240; Crss Typ (pF): 180; ID Max (A): 44; Qrr Typ (nC): 15.2; V(BR)DSS Min (V): 40; VGS Max (V): 20; VGS(th) Max (V): 2.4; DatasheetVersion: Rev. 5; PackageVersion: Rev. E, 02/2013; PackageReference: DFN-8-506BT; PackageDescription: 8-Pin Small Outline No-Lead, Body 4.9 x 5.9 mm, Pitch 1.27 mm; Supplier 1: Newark; Supplier Part Number 1: 11X3715; Supplier 2: Mouser; Supplier Part Number 2: 863-NVMFD5852NLWFT1G; Configuration: Dual; Package Type: DFN-8; Packing: Tape and Reel; RoHS: Pb-Free; Mounting Technology: Surface Mount; ComponentLink1Description: Manufacturer URL; ComponentLink1URL: http://www.onsemi.com/; ComponentLink2Description: Datasheet; ComponentLink2URL: http://www.onsemi.com/pub_link/Collateral/NVMFD5852NL-D.PDF; ComponentLink3Description: Package Specification; ComponentLink3URL: http://www.onsemi.com/pub_link/Collateral/506BT.PDF
footprint ONSC-DFN-8-506BT_V (DFN, 8-Leads, Body 5.9x4.9mm, Pitch 1.27mm)
part A pins: 1 S1, 2 G1, 7 D1, 8 D1
part B pins: 3 S2, 4 G2, 5 D2, 6 D2
part A text: 7, 8
part B text: 5, 6

## NVMFD5853NLT1G
designator Q?
Power MOSFET, 40 V, 34 A, 10 mOhm, Dual N-Channel Logic Level, 8-Pin DFN, Pb-Free, Tape and Reel; Manufacturer: On Semiconductor; PartNumber: NVMFD5853NLT1G; Channel Polarity: N Channel; Ciss Typ (pF): 1100; Coss Typ (pF): 152; Crss Typ (pF): 100; ID Max (A): 34; Qrr Typ (nC): 12.1; V(BR)DSS Min (V): 40; VGS Max (V): 20; VGS(th) Max (V): 2.4; DatasheetVersion: Rev. 3; PackageVersion: Rev. E, 02/2013; PackageReference: DFN-8-506BT; PackageDescription: 8-Pin Small Outline No-Lead, Body 4.9 x 5.9 mm, Pitch 1.27 mm; Supplier 1: Newark; Supplier Part Number 1: 72W2342; Supplier 2: Mouser; Supplier Part Number 2: 863-NVMFD5853NLT1G; Configuration: Dual; Package Type: SO-8FL Dual / DFN-8; Packing: Tape and Reel; RoHS: Pb-Free; Mounting Technology: Surface Mount; ComponentLink1Description: Manufacturer URL; ComponentLink1URL: http://www.onsemi.com/; ComponentLink2Description: Datasheet; ComponentLink2URL: http://www.onsemi.com/pub_link/Collateral/NVMFD5853NL-D.PDF; ComponentLink3Description: Package Specification; ComponentLink3URL: http://www.onsemi.com/pub_link/Collateral/506BT.PDF
footprint ONSC-DFN-8-506BT_V (DFN, 8-Leads, Body 5.9x4.9mm, Pitch 1.27mm)
part A pins: 1 S1, 2 G1, 7 D1, 8 D1
part B pins: 3 S2, 4 G2, 5 D2, 6 D2
part A text: 7, 8
part B text: 5, 6

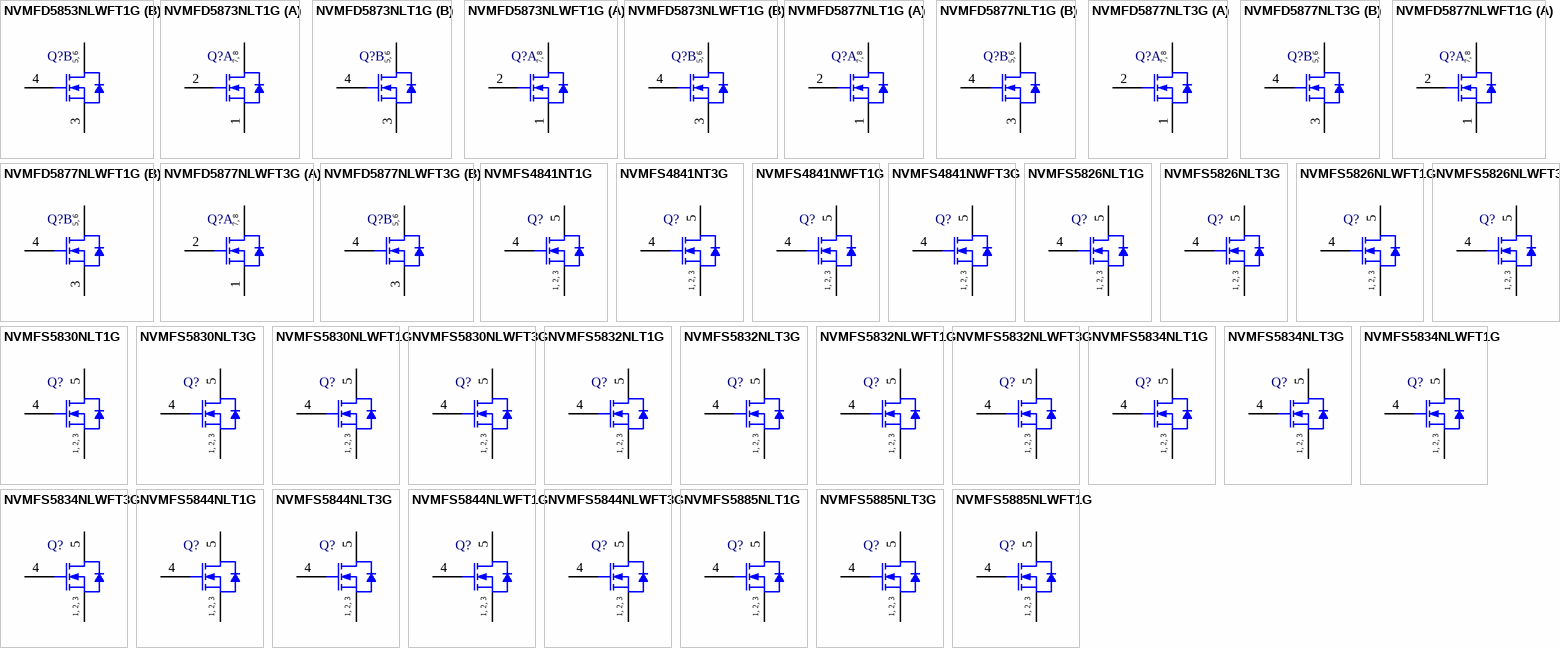
[diagram p83: symbols NVMFD5853NLWFT1G to NVMFS5885NLWFT1G]

## NVMFD5853NLWFT1G
designator Q?
Power MOSFET, 40 V, 34 A, 10 mOhm, Dual N-Channel Logic Level, 8-Pin DFN, Pb-Free, Tape and Reel; Manufacturer: On Semiconductor; PartNumber: NVMFD5853NLWFT1G; Channel Polarity: N Channel; Ciss Typ (pF): 1100; Coss Typ (pF): 152; Crss Typ (pF): 100; ID Max (A): 34; Qrr Typ (nC): 12.1; V(BR)DSS Min (V): 40; VGS Max (V): 20; VGS(th) Max (V): 2.4; DatasheetVersion: Rev. 3; PackageVersion: Rev. E, 02/2013; PackageReference: DFN-8-506BT; PackageDescription: 8-Pin Small Outline No-Lead, Body 4.9 x 5.9 mm, Pitch 1.27 mm; Supplier 1: Newark; Supplier Part Number 1: 11X3716; Supplier 2: Mouser; Supplier Part Number 2: 863-NVMFD5853NLWFT1G; Configuration: Dual; Package Type: SO-8FL Dual / DFN-8; Packing: Tape and Reel; RoHS: Pb-Free; Mounting Technology: Surface Mount; ComponentLink1Description: Manufacturer URL; ComponentLink1URL: http://www.onsemi.com/; ComponentLink2Description: Datasheet; ComponentLink2URL: http://www.onsemi.com/pub_link/Collateral/NVMFD5853NL-D.PDF; ComponentLink3Description: Package Specification; ComponentLink3URL: http://www.onsemi.com/pub_link/Collateral/506BT.PDF
footprint ONSC-DFN-8-506BT_V (DFN, 8-Leads, Body 5.9x4.9mm, Pitch 1.27mm)
part A pins: 1 S1, 2 G1, 7 D1, 8 D1
part B pins: 3 S2, 4 G2, 5 D2, 6 D2
part A text: 7, 8
part B text: 5, 6

## NVMFD5873NLT1G
designator Q?
Power MOSFET, 60 V, 58 A, 13 mOhm, Dual N-Channel Logic Level, 8-Pin DFN, Pb-Free, Tape and Reel; Manufacturer: On Semiconductor; PartNumber: NVMFD5873NLT1G; Channel Polarity: N Channel; Ciss Typ (pF): 1560; Coss Typ (pF): 145; Crss Typ (pF): 98; ID Max (A): 58; Qrr Typ (nC): 18; V(BR)DSS Min (V): 60; VGS Max (V): 20; VGS(th) Max (V): 2.5; DatasheetVersion: Rev. 2; PackageVersion: Rev. E, 02/2013; PackageReference: DFN-8-506BT; PackageDescription: 8-Pin Small Outline No-Lead, Body 4.9 x 5.9 mm, Pitch 1.27 mm; Supplier 1: Newark; Supplier Part Number 1: 72W2343; Supplier 2: Mouser; Supplier Part Number 2: 863-NVMFD5873NLT1G; Configuration: Dual; Package Type: SO-8FL Dual / DFN-8; Packing: Tape and Reel; RoHS: Pb-Free; Mounting Technology: Surface Mount; ComponentLink1Description: Manufacturer URL; ComponentLink1URL: http://www.onsemi.com/; ComponentLink2Description: Datasheet; ComponentLink2URL: http://www.onsemi.com/pub_link/Collateral/NVMFD5873NL-D.PDF; ComponentLink3Description: Package Specification; ComponentLink3URL: http://www.onsemi.com/pub_link/Collateral/506BT.PDF
footprint ONSC-DFN-8-506BT_V (DFN, 8-Leads, Body 5.9x4.9mm, Pitch 1.27mm)
part A pins: 1 S1, 2 G1, 7 D1, 8 D1
part B pins: 3 S2, 4 G2, 5 D2, 6 D2
part A text: 7, 8
part B text: 5, 6

## NVMFD5873NLWFT1G
designator Q?
Power MOSFET, 60 V, 58 A, 13 mOhm, Dual N-Channel Logic Level, 8-Pin DFN, Pb-Free, Tape and Reel; Manufacturer: On Semiconductor; PartNumber: NVMFD5873NLWFT1G; Channel Polarity: N Channel; Ciss Typ (pF): 1560; Coss Typ (pF): 145; Crss Typ (pF): 98; ID Max (A): 58; Qrr Typ (nC): 18; V(BR)DSS Min (V): 60; VGS Max (V): 20; VGS(th) Max (V): 2.5; DatasheetVersion: Rev. 2; PackageVersion: Rev. E, 02/2013; PackageReference: DFN-8-506BT; PackageDescription: 8-Pin Small Outline No-Lead, Body 4.9 x 5.9 mm, Pitch 1.27 mm; Supplier 1: Newark; Supplier Part Number 1: 11X3717; Supplier 2: Mouser; Supplier Part Number 2: 863-NVMFD5873NLWFT1G; Configuration: Dual; Package Type: SO-8FL Dual / DFN-8; Packing: Tape and Reel; RoHS: Pb-Free; Mounting Technology: Surface Mount; ComponentLink1Description: Manufacturer URL; ComponentLink1URL: http://www.onsemi.com/; ComponentLink2Description: Datasheet; ComponentLink2URL: http://www.onsemi.com/pub_link/Collateral/NVMFD5873NL-D.PDF; ComponentLink3Description: Package Specification; ComponentLink3URL: http://www.onsemi.com/pub_link/Collateral/506BT.PDF
footprint ONSC-DFN-8-506BT_V (DFN, 8-Leads, Body 5.9x4.9mm, Pitch 1.27mm)
part A pins: 1 S1, 2 G1, 7 D1, 8 D1
part B pins: 3 S2, 4 G2, 5 D2, 6 D2
part A text: 7, 8
part B text: 5, 6

## NVMFD5877NLT1G
designator Q?
Power MOSFET, 60 V, 17 A, 39 mOhm, Dual N-Channel, Logic Level, 8-Pin DFN, Pb-Free, Tape and Reel; Manufacturer: On Semiconductor; PartNumber: NVMFD5877NLT1G; Channel Polarity: N Channel; Ciss Typ (pF): 540; Coss Typ (pF): 55; Crss Typ (pF): 36; ID Max (A): 17; Qrr Typ (nC): 11; V(BR)DSS Min (V): 60; VGS Max (V): 20; VGS(th) Max (V): 3; DatasheetVersion: Rev. 7; PackageVersion: Rev. E, 02/2013; PackageReference: DFN-8-506BT; PackageDescription: 8-Pin Small Outline No-Lead, Body 4.9 x 5.9 mm, Pitch 1.27 mm; Supplier 1: Digi-Key; Supplier Part Number 1: NVMFD5877NLT1G-ND; Supplier 2: Newark; Supplier Part Number 2: 52T8348; Supplier 3: Mouser; Supplier Part Number 3: 863-NVMFD5877NLT1G; Configuration: Dual; Package Type: SO-8FL Dual / DFN-8; Packing: Tape and Reel; RoHS: Pb-Free; Mounting Technology: Surface Mount; ComponentLink1Description: Manufacturer URL; ComponentLink1URL: http://www.onsemi.com/; ComponentLink2Description: Datasheet; ComponentLink2URL: http://www.onsemi.com/pub_link/Collateral/NVMFD5877NL-D.PDF; ComponentLink3Description: Package Specification; ComponentLink3URL: http://www.onsemi.com/pub_link/Collateral/506BT.PDF
footprint ONSC-DFN-8-506BT_V (DFN, 8-Leads, Body 5.9x4.9mm, Pitch 1.27mm)
part A pins: 1 S1, 2 G1, 7 D1, 8 D1
part B pins: 3 S2, 4 G2, 5 D2, 6 D2
part A text: 7, 8
part B text: 5, 6

## NVMFD5877NLT3G
designator Q?
Power MOSFET, 60 V, 17 A, 39 mOhm, Dual N-Channel, Logic Level, 8-Pin DFN, Pb-Free, Tape and Reel; Manufacturer: On Semiconductor; PartNumber: NVMFD5877NLT3G; Channel Polarity: N Channel; Ciss Typ (pF): 540; Coss Typ (pF): 55; Crss Typ (pF): 36; ID Max (A): 17; Qrr Typ (nC): 11; V(BR)DSS Min (V): 60; VGS Max (V): 20; VGS(th) Max (V): 3; DatasheetVersion: Rev. 7; PackageVersion: Rev. E, 02/2013; PackageReference: DFN-8-506BT; PackageDescription: 8-Pin Small Outline No-Lead, Body 4.9 x 5.9 mm, Pitch 1.27 mm; Supplier 1: Digi-Key; Supplier Part Number 1: NVMFD5877NLT3G-ND; Supplier 2: Mouser; Supplier Part Number 2: 863-NVMFD5877NLT3G; Configuration: Dual; Package Type: SO-8FL Dual / DFN-8; Packing: Tape and Reel; RoHS: Pb-Free; Mounting Technology: Surface Mount; ComponentLink1Description: Manufacturer URL; ComponentLink1URL: http://www.onsemi.com/; ComponentLink2Description: Datasheet; ComponentLink2URL: http://www.onsemi.com/pub_link/Collateral/NVMFD5877NL-D.PDF; ComponentLink3Description: Package Specification; ComponentLink3URL: http://www.onsemi.com/pub_link/Collateral/506BT.PDF
footprint ONSC-DFN-8-506BT_V (DFN, 8-Leads, Body 5.9x4.9mm, Pitch 1.27mm)
part A pins: 1 S1, 2 G1, 7 D1, 8 D1
part B pins: 3 S2, 4 G2, 5 D2, 6 D2
part A text: 7, 8
part B text: 5, 6

## NVMFD5877NLWFT1G
designator Q?
Power MOSFET, 60 V, 17 A, 39 mOhm, Dual N-Channel, Logic Level, 8-Pin DFN, Pb-Free, Tape and Reel; Manufacturer: On Semiconductor; PartNumber: NVMFD5877NLWFT1G; Channel Polarity: N Channel; Ciss Typ (pF): 540; Coss Typ (pF): 55; Crss Typ (pF): 36; ID Max (A): 17; Qrr Typ (nC): 11; V(BR)DSS Min (V): 60; VGS Max (V): 20; VGS(th) Max (V): 3; DatasheetVersion: Rev. 7; PackageVersion: Rev. E, 02/2013; PackageReference: DFN-8-506BT; PackageDescription: 8-Pin Small Outline No-Lead, Body 4.9 x 5.9 mm, Pitch 1.27 mm; Supplier 1: Newark; Supplier Part Number 1: 11X3718; Supplier 2: Mouser; Supplier Part Number 2: 863-NVMFD5877NLWFT1G; Configuration: Dual; Package Type: SO-8FL Dual / DFN-8; Packing: Tape and Reel; RoHS: Pb-Free; Mounting Technology: Surface Mount; ComponentLink1Description: Manufacturer URL; ComponentLink1URL: http://www.onsemi.com/; ComponentLink2Description: Datasheet; ComponentLink2URL: http://www.onsemi.com/pub_link/Collateral/NVMFD5877NL-D.PDF; ComponentLink3Description: Package Specification; ComponentLink3URL: http://www.onsemi.com/pub_link/Collateral/506BT.PDF
footprint ONSC-DFN-8-506BT_V (DFN, 8-Leads, Body 5.9x4.9mm, Pitch 1.27mm)
part A pins: 1 S1, 2 G1, 7 D1, 8 D1
part B pins: 3 S2, 4 G2, 5 D2, 6 D2
part A text: 7, 8
part B text: 5, 6

## NVMFD5877NLWFT3G
designator Q?
Power MOSFET, 60 V, 17 A, 39 mOhm, Dual N-Channel, Logic Level, 8-Pin DFN, Pb-Free, Tape and Reel; Manufacturer: On Semiconductor; PartNumber: NVMFD5877NLWFT3G; Channel Polarity: N Channel; Ciss Typ (pF): 540; Coss Typ (pF): 55; Crss Typ (pF): 36; ID Max (A): 17; Qrr Typ (nC): 11; V(BR)DSS Min (V): 60; VGS Max (V): 20; VGS(th) Max (V): 3; DatasheetVersion: Rev. 7; PackageVersion: Rev. E, 02/2013; PackageReference: DFN-8-506BT; PackageDescription: 8-Pin Small Outline No-Lead, Body 4.9 x 5.9 mm, Pitch 1.27 mm; Supplier 1: Newark; Supplier Part Number 1: 11X3719; Supplier 2: Mouser; Supplier Part Number 2: 863-NVMFD5877NLWFT3G; Configuration: Dual; Package Type: SO-8FL Dual / DFN-8; Packing: Tape and Reel; RoHS: Pb-Free; Mounting Technology: Surface Mount; ComponentLink1Description: Manufacturer URL; ComponentLink1URL: http://www.onsemi.com/; ComponentLink2Description: Datasheet; ComponentLink2URL: http://www.onsemi.com/pub_link/Collateral/NVMFD5877NL-D.PDF; ComponentLink3Description: Package Specification; ComponentLink3URL: http://www.onsemi.com/pub_link/Collateral/506BT.PDF
footprint ONSC-DFN-8-506BT_V (DFN, 8-Leads, Body 5.9x4.9mm, Pitch 1.27mm)
part A pins: 1 S1, 2 G1, 7 D1, 8 D1
part B pins: 3 S2, 4 G2, 5 D2, 6 D2
part A text: 7, 8
part B text: 5, 6

## NVMFS4841NT1G
designator Q?
Power MOSFET, 30 V, 89 A, 7 mOhm, Single N-Channel, 5-Pin DFN, Pb-Free, Tape and Reel; Manufacturer: On Semiconductor; PartNumber: NVMFS4841NT1G; Channel Polarity: N Channel; Ciss Typ (pF): 1436; Coss Typ (pF): 348; Crss Typ (pF): 177; ID Max (A): 89; Qrr Typ (nC): 10.7; V(BR)DSS Min (V): 30; VGS Max (V): 20; VGS(th) Max (V): 2.5; DatasheetVersion: Rev. 3; PackageVersion: Rev. H, 03/2013; PackageReference: DFN-5-488AA; PackageDescription: 5-Pin Small Outline No-Lead, Body 4.9 x 5.9 mm, Pitch 1.27 mm; Supplier 1: Digi-Key; Supplier Part Number 1: NVMFS4841NT1G-ND; Supplier 2: Mouser; Supplier Part Number 2: 863-NVMFS4841NT1G; Configuration: Single; Package Type: DFN-5; Packing: Tape and Reel; RoHS: Pb-Free; Mounting Technology: Surface Mount; Code_JEDEC: MO-240A; ComponentLink1Description: Manufacturer URL; ComponentLink1URL: http://www.onsemi.com/; ComponentLink2Description: Datasheet; ComponentLink2URL: http://www.onsemi.com/pub_link/Collateral/NVMFS4841N-D.PDF; ComponentLink3Description: Package Specification; ComponentLink3URL: http://www.onsemi.com/pub_link/Collateral/488AA.PDF
footprint ONSC-DFN-5-488AA_V (DFN, 5-Leads, Body 5.9x4.9mm, Pitch 1.27mm)
pins: 1 S, 2 S, 3 S, 4 G, 5 D
text: 1, 2, 3

## NVMFS4841NT3G
designator Q?
Power MOSFET, 30 V, 89 A, 7 mOhm, Single N-Channel, 5-Pin DFN, Pb-Free, Tape and Reel; Manufacturer: On Semiconductor; PartNumber: NVMFS4841NT3G; Channel Polarity: N Channel; Ciss Typ (pF): 1436; Coss Typ (pF): 348; Crss Typ (pF): 177; ID Max (A): 89; Qrr Typ (nC): 10.7; V(BR)DSS Min (V): 30; VGS Max (V): 20; VGS(th) Max (V): 2.5; DatasheetVersion: Rev. 3; PackageVersion: Rev. H, 03/2013; PackageReference: DFN-5-488AA; PackageDescription: 5-Pin Small Outline No-Lead, Body 4.9 x 5.9 mm, Pitch 1.27 mm; Configuration: Single; Package Type: DFN-5; Packing: Tape and Reel; RoHS: Pb-Free; Mounting Technology: Surface Mount; Code_JEDEC: MO-240A; ComponentLink1Description: Manufacturer URL; ComponentLink1URL: http://www.onsemi.com/; ComponentLink2Description: Datasheet; ComponentLink2URL: http://www.onsemi.com/pub_link/Collateral/NVMFS4841N-D.PDF; ComponentLink3Description: Package Specification; ComponentLink3URL: http://www.onsemi.com/pub_link/Collateral/488AA.PDF
footprint ONSC-DFN-5-488AA_V (DFN, 5-Leads, Body 5.9x4.9mm, Pitch 1.27mm)
pins: 1 S, 2 S, 3 S, 4 G, 5 D
text: 1, 2, 3

## NVMFS4841NWFT1G
designator Q?
Power MOSFET, 30 V, 89 A, 7 mOhm, Single N-Channel, 5-Pin DFN, Pb-Free, Tape and Reel; Manufacturer: On Semiconductor; PartNumber: NVMFS4841NWFT1G; Channel Polarity: N Channel; Ciss Typ (pF): 1436; Coss Typ (pF): 348; Crss Typ (pF): 177; ID Max (A): 89; Qrr Typ (nC): 10.7; V(BR)DSS Min (V): 30; VGS Max (V): 20; VGS(th) Max (V): 2.5; DatasheetVersion: Rev. 3; PackageVersion: Rev. H, 03/2013; PackageReference: DFN-5-488AA; PackageDescription: 5-Pin Small Outline No-Lead, Body 4.9 x 5.9 mm, Pitch 1.27 mm; Supplier 1: Newark; Supplier Part Number 1: 11X3720; Supplier 2: Mouser; Supplier Part Number 2: 863-NVMFS4841NWFT1G; Configuration: Single; Package Type: DFN-5; Packing: Tape and Reel; RoHS: Pb-Free; Mounting Technology: Surface Mount; Code_JEDEC: MO-240A; ComponentLink1Description: Manufacturer URL; ComponentLink1URL: http://www.onsemi.com/; ComponentLink2Description: Datasheet; ComponentLink2URL: http://www.onsemi.com/pub_link/Collateral/NVMFS4841N-D.PDF; ComponentLink3Description: Package Specification; ComponentLink3URL: http://www.onsemi.com/pub_link/Collateral/488AA.PDF
footprint ONSC-DFN-5-488AA_V (DFN, 5-Leads, Body 5.9x4.9mm, Pitch 1.27mm)
pins: 1 S, 2 S, 3 S, 4 G, 5 D
text: 1, 2, 3

## NVMFS4841NWFT3G
designator Q?
Power MOSFET, 30 V, 89 A, 7 mOhm, Single N-Channel, 5-Pin DFN, Pb-Free, Tape and Reel; Manufacturer: On Semiconductor; PartNumber: NVMFS4841NWFT3G; Channel Polarity: N Channel; Ciss Typ (pF): 1436; Coss Typ (pF): 348; Crss Typ (pF): 177; ID Max (A): 89; Qrr Typ (nC): 10.7; V(BR)DSS Min (V): 30; VGS Max (V): 20; VGS(th) Max (V): 2.5; DatasheetVersion: Rev. 3; PackageVersion: Rev. H, 03/2013; PackageReference: DFN-5-488AA; PackageDescription: 5-Pin Small Outline No-Lead, Body 4.9 x 5.9 mm, Pitch 1.27 mm; Configuration: Single; Package Type: DFN-5; Packing: Tape and Reel; RoHS: Pb-Free; Mounting Technology: Surface Mount; Code_JEDEC: MO-240A; ComponentLink1Description: Manufacturer URL; ComponentLink1URL: http://www.onsemi.com/; ComponentLink2Description: Datasheet; ComponentLink2URL: http://www.onsemi.com/pub_link/Collateral/NVMFS4841N-D.PDF; ComponentLink3Description: Package Specification; ComponentLink3URL: http://www.onsemi.com/pub_link/Collateral/488AA.PDF
footprint ONSC-DFN-5-488AA_V (DFN, 5-Leads, Body 5.9x4.9mm, Pitch 1.27mm)
pins: 1 S, 2 S, 3 S, 4 G, 5 D
text: 1, 2, 3

## NVMFS5826NLT1G
designator Q?
Power MOSFET, 60 V, 26 A, 24 mOhm, Single N-Channel, 5-Pin DFN, Pb-Free, Tape and Reel; Manufacturer: On Semiconductor; PartNumber: NVMFS5826NLT1G; Channel Polarity: N Channel; Ciss Typ (pF): 850; Coss Typ (pF): 85; Crss Typ (pF): 50; ID Max (A): 26; Qrr Typ (nC): 11; V(BR)DSS Min (V): 60; VGS Max (V): 20; VGS(th) Max (V): 2.5; DatasheetVersion: Rev. 3; PackageVersion: Rev. H, 03/2013; PackageReference: DFN-5-488AA; PackageDescription: 5-Pin Small Outline No-Lead, Body 4.9 x 5.9 mm, Pitch 1.27 mm; Supplier 1: Newark; Supplier Part Number 1: 60W1851; Supplier 2: Mouser; Supplier Part Number 2: 863-NVMFS5826NLT1G; Configuration: Single; Package Type: SO-8FL / DFN-5; Packing: Tape and Reel; RoHS: Pb-Free; Mounting Technology: Surface Mount; Code_JEDEC: MO-240A; ComponentLink1Description: Manufacturer URL; ComponentLink1URL: http://www.onsemi.com/; ComponentLink2Description: Datasheet; ComponentLink2URL: http://www.onsemi.com/pub_link/Collateral/NVMFS5826NL-D.PDF; ComponentLink3Description: Package Specification; ComponentLink3URL: http://www.onsemi.com/pub_link/Collateral/488AA.PDF
footprint ONSC-DFN-5-488AA_V (DFN, 5-Leads, Body 5.9x4.9mm, Pitch 1.27mm)
pins: 1 S, 2 S, 3 S, 4 G, 5 D
text: 1, 2, 3